# Altium integrated library 5018.IntLib: 1 symbol
Pins are listed as number, name and electrical type; pins without a type are passive.

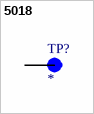
[diagram p0: symbol 5018]

## 5018
designator TP?
Test Point,Compact,SMT,Reel | Keystone Electronics 5018; MP: 5018; SnapEDA_Link: https://www.snapeda.com/parts/5018/Keystone/view-part/?ref=snap; Package: None; Value: *; MF: Keystone Electronics; Check_prices: https://www.snapeda.com/parts/5018/Keystone/view-part/?ref=eda
footprint TP470X343
pins: TP